# Altium schematic symbol library PAM2303.SchLib: 1 symbol
Pins are listed as number, name and electrical type; pins without a type are passive.

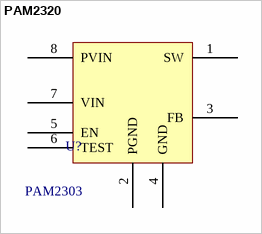
[diagram p0: symbol PAM2320]

## PAM2320
designator U?  Name: PAM2303  (hidden comment: PAM2320)
3A LOW NOISE STEP-DOWN DC-DC CONVERTER
footprint SOP8
pins: 1 SW, 2 PGND, 3 FB, 4 GND, 5 EN, 6 TEST, 7 VIN, 8 PVIN